# Altium schematic symbol library SR3R0100FE66.SchLib: 1 symbol
Pins are listed as number, name and electrical type; pins without a type are passive.

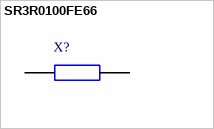
[diagram p0: symbol SR3R0100FE66]

## SR3R0100FE66
designator X?
Vishay .01   OHM  1% 3W; Geometry.Height: 25.4mm; Mouser Part Number: 71-SR3R0100FE66; Mouser Price/Stock: https://www.mouser.co.uk/ProductDetail/Vishay-Dale/SR3R0100FE66?qs=BZBei1rCqCAq0LKoiENeyg%3D%3D; Manufacturer_Name: Vishay; Manufacturer_Part_Number: SR3R0100FE66; Datasheet Link: https://www.arrow.com/en/products/sr3r0100fe66/vishay
footprint SR3R0100FE66
pins: 1, 2